# Altium footprint library HMC573LC3B.PcbLib: 3 footprints
Each footprint in its own frame and in the unit in brackets; x right, y up, seen from the top. Pads: shape width x height; smd on the part's side, far side on the other; paste and mask are expansions set on the pad; w line width, h text height; cw(c..) or ccw(c..) is an arc to the next point about the centre after c.
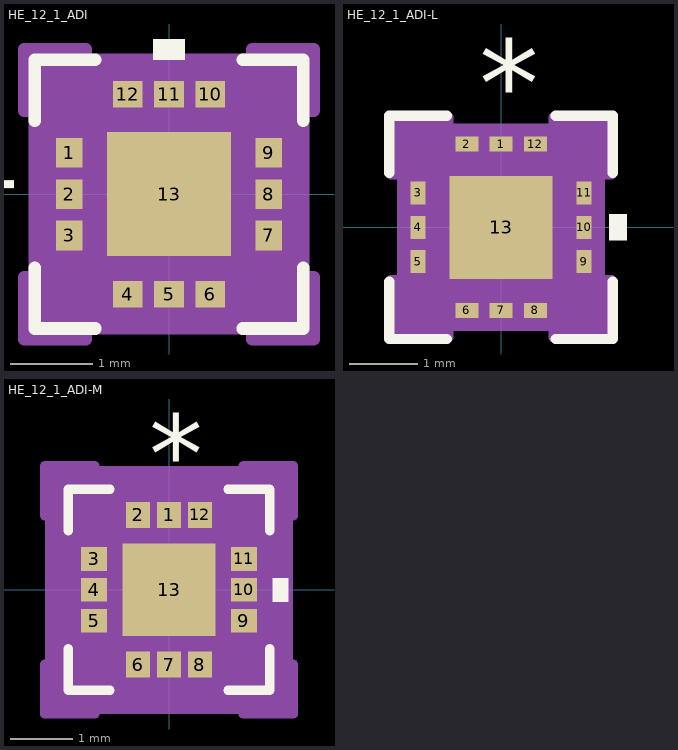
[diagram p0: the footprints below, top view; thin cyan lines are the x and y axes]

## HE_12_1_ADI [mm]
pads (13):
  rect 0.32x0.36 smd paste+0 mask+0: 1(-1.21,0.5) 2(-1.21,0) 3(-1.21,-0.5) 7(1.21,-0.5) 8(1.21,0) 9(1.21,0.5)
  rect 0.36x0.32 smd paste+0 mask+0: 4(-0.5,-1.21) 5(0,-1.21) 6(0.5,-1.21) 10(0.5,1.21) 11(0,1.21) 12(-0.5,1.21)
  rect 1.5x1.5 smd paste+0 mask+0: 13(0,0)
Top Overlay:
  region: -0.191,1.624 -0.191,1.878 0.191,1.878 0.191,1.624
  lines w0.152: -1.627,-0.891 -1.627,-1.627 -0.891,-1.627 ; -1.627,0.891 -1.627,1.627 -0.891,1.627 ; 0.891,-1.627 1.627,-1.627 1.627,-0.891 ; 0.891,1.627 1.627,1.627 1.627,0.891
  text "*" at -1.37,-0.318 h1.27
  text ".Designator" at 0.635,-3.492 h1.27
Mechanical 13:
  lines w0.025: -1.5,-0.23 -0.23,-1.5 ; -1.5,-1.5 -1.5,1.5 1.5,1.5 1.5,-1.5 -1.5,-1.5 ; -1.5,-0.68 -1.5,-0.32 -1.37,-0.32 -1.37,-0.68 -1.5,-0.68 ; -1.5,-0.18 -1.5,0.18 -1.37,0.18 -1.37,-0.18 -1.5,-0.18 ; -1.5,0.32 -1.5,0.68 -1.37,0.68 -1.37,0.32 -1.5,0.32 ; -0.68,-1.5 -0.32,-1.5 -0.32,-1.37 -0.68,-1.37 -0.68,-1.5 ; -0.68,1.37 -0.32,1.37 -0.32,1.5 -0.68,1.5 -0.68,1.37 ; -0.18,-1.5 0.18,-1.5 0.18,-1.37 -0.18,-1.37 -0.18,-1.5 ; -0.18,1.37 0.18,1.37 0.18,1.5 -0.18,1.5 -0.18,1.37 ; 0.32,-1.5 0.68,-1.5 0.68,-1.37 0.32,-1.37 0.32,-1.5 ; 0.32,1.37 0.68,1.37 0.68,1.5 0.32,1.5 0.32,1.37 ; 1.37,-0.68 1.5,-0.68 1.5,-0.32 1.37,-0.32 1.37,-0.68 ; 1.37,-0.18 1.5,-0.18 1.5,0.18 1.37,0.18 1.37,-0.18 ; 1.37,0.32 1.5,0.32 1.5,0.68 1.37,0.68 1.37,0.32
  text ".Designator" at 0.635,-3.492 h1.27
  text "*" at 0.154,-0.318 h1.27
Mechanical 15:
  region: 1.754,-1.008 1.754,-1.754 1.008,-1.754 1.008,-1.624 -1.008,-1.624 -1.008,-1.754 -1.754,-1.754 -1.754,-1.008 -1.624,-1.008 -1.624,1.008 -1.754,1.008 -1.754,1.754 -1.008,1.754 -1.008,1.624 1.008,1.624 1.008,1.754 1.754,1.754 1.754,1.008 1.624,1.008 1.624,-1.008
  lines w0.152: -1.754,-1.754 -1.008,-1.754 -1.008,-1.624 1.008,-1.624 1.008,-1.754 1.754,-1.754 1.754,-1.008 1.624,-1.008 1.624,1.008 1.754,1.008 1.754,1.754 1.008,1.754 1.008,1.624 -1.008,1.624 -1.008,1.754 -1.754,1.754 -1.754,1.008 -1.624,1.008 -1.624,-1.008 -1.754,-1.008 -1.754,-1.754
3D body "HE_12_1_ADI.step": height 0.92, standoff 0, extent -1.551,-1.551 1.551,1.551

## HE_12_1_ADI-L [mm]
pads (13):
  rect 0.335x0.218 smd paste+0 mask+0: 1(0,1.21) 2(-0.5,1.21) 6(-0.5,-1.21) 7(0,-1.21) 8(0.5,-1.21) 12(0.5,1.21)
  rect 0.218x0.335 smd paste+0 mask+0: 3(-1.21,0.5) 4(-1.21,0) 5(-1.21,-0.5) 9(1.21,-0.5) 10(1.21,0) 11(1.21,0.5)
  rect 1.5x1.5 smd paste+0 mask+0: 13(0,0)
Top Overlay:
  region: 1.573,0.191 1.827,0.191 1.827,-0.191 1.573,-0.191
  lines w0.152: -1.627,-0.794 -1.627,-1.627 -0.794,-1.627 ; -1.627,0.794 -1.627,1.627 -0.794,1.627 ; 0.794,-1.627 1.627,-1.627 1.627,-0.794 ; 0.794,1.627 1.627,1.627 1.627,0.794
  text "*" at -0.318,1.472 h1.27
  text ".Designator" at -3.492,-0.635 h1.27
Mechanical 13:
  lines w0.025: -1.5,0.23 -0.23,1.5 ; -1.5,-1.5 1.5,-1.5 1.5,1.5 -1.5,1.5 -1.5,-1.5 ; -1.5,-0.68 -1.5,-0.32 -1.37,-0.32 -1.37,-0.68 -1.5,-0.68 ; -1.5,-0.18 -1.5,0.18 -1.37,0.18 -1.37,-0.18 -1.5,-0.18 ; -1.5,0.32 -1.5,0.68 -1.37,0.68 -1.37,0.32 -1.5,0.32 ; -0.68,-1.5 -0.32,-1.5 -0.32,-1.37 -0.68,-1.37 -0.68,-1.5 ; -0.68,1.37 -0.32,1.37 -0.32,1.5 -0.68,1.5 -0.68,1.37 ; -0.18,-1.5 0.18,-1.5 0.18,-1.37 -0.18,-1.37 -0.18,-1.5 ; -0.18,1.37 0.18,1.37 0.18,1.5 -0.18,1.5 -0.18,1.37 ; 0.32,-1.5 0.68,-1.5 0.68,-1.37 0.32,-1.37 0.32,-1.5 ; 0.32,1.37 0.68,1.37 0.68,1.5 0.32,1.5 0.32,1.37 ; 1.37,-0.68 1.5,-0.68 1.5,-0.32 1.37,-0.32 1.37,-0.68 ; 1.37,-0.18 1.5,-0.18 1.5,0.18 1.37,0.18 1.37,-0.18 ; 1.37,0.32 1.5,0.32 1.5,0.68 1.37,0.68 1.37,0.32
  text ".Designator" at -3.492,-0.635 h1.27
  text "*" at -0.318,-0.052 h1.27
Mechanical 15:
  region: -0.769,-1.602 -1.602,-1.602 -1.602,-0.769 -1.421,-0.769 -1.421,0.769 -1.602,0.769 -1.602,1.602 -0.769,1.602 -0.769,1.421 0.769,1.421 0.769,1.602 1.602,1.602 1.602,0.769 1.421,0.769 1.421,-0.769 1.602,-0.769 1.602,-1.602 0.769,-1.602 0.769,-1.421 -0.769,-1.421
  lines w0.152: -1.602,-1.602 -1.602,-0.769 -1.421,-0.769 -1.421,0.769 -1.602,0.769 -1.602,1.602 -0.769,1.602 -0.769,1.421 0.769,1.421 0.769,1.602 1.602,1.602 1.602,0.769 1.421,0.769 1.421,-0.769 1.602,-0.769 1.602,-1.602 0.769,-1.602 0.769,-1.421 -0.769,-1.421 -0.769,-1.602 -1.602,-1.602
3D body "HE_12_1_ADI.step": height 0.92, standoff 0, extent -1.551,-1.551 1.551,1.551

## HE_12_1_ADI-M [mm]
pads (13):
  rect 0.385x0.422 smd paste+0 mask+0: 1(0,1.21) 2(-0.5,1.21) 6(-0.5,-1.21) 7(0,-1.21) 8(0.5,-1.21) 12(0.5,1.21)
  rect 0.422x0.385 smd paste+0 mask+0: 3(-1.21,0.5) 4(-1.21,0) 5(-1.21,-0.5) 9(1.21,-0.5) 10(1.21,0) 11(1.21,0.5)
  rect 1.5x1.5 smd paste+0 mask+0: 13(0,0)
Top Overlay:
  region: 1.675,0.191 1.929,0.191 1.929,-0.191 1.675,-0.191
  lines w0.152: -1.627,-0.954 -1.627,-1.627 -0.954,-1.627 ; -1.627,0.954 -1.627,1.627 -0.954,1.627 ; 0.954,-1.627 1.627,-1.627 1.627,-0.954 ; 0.954,1.627 1.627,1.627 1.627,0.954
  text "*" at -0.318,1.573 h1.27
  text ".Designator" at -3.492,-0.635 h1.27
Mechanical 13:
  lines w0.025: -1.5,0.23 -0.23,1.5 ; -1.5,-1.5 1.5,-1.5 1.5,1.5 -1.5,1.5 -1.5,-1.5 ; -1.5,-0.68 -1.5,-0.32 -1.37,-0.32 -1.37,-0.68 -1.5,-0.68 ; -1.5,-0.18 -1.5,0.18 -1.37,0.18 -1.37,-0.18 -1.5,-0.18 ; -1.5,0.32 -1.5,0.68 -1.37,0.68 -1.37,0.32 -1.5,0.32 ; -0.68,-1.5 -0.32,-1.5 -0.32,-1.37 -0.68,-1.37 -0.68,-1.5 ; -0.68,1.37 -0.32,1.37 -0.32,1.5 -0.68,1.5 -0.68,1.37 ; -0.18,-1.5 0.18,-1.5 0.18,-1.37 -0.18,-1.37 -0.18,-1.5 ; -0.18,1.37 0.18,1.37 0.18,1.5 -0.18,1.5 -0.18,1.37 ; 0.32,-1.5 0.68,-1.5 0.68,-1.37 0.32,-1.37 0.32,-1.5 ; 0.32,1.37 0.68,1.37 0.68,1.5 0.32,1.5 0.32,1.37 ; 1.37,-0.68 1.5,-0.68 1.5,-0.32 1.37,-0.32 1.37,-0.68 ; 1.37,-0.18 1.5,-0.18 1.5,0.18 1.37,0.18 1.37,-0.18 ; 1.37,0.32 1.5,0.32 1.5,0.68 1.37,0.68 1.37,0.32
  text ".Designator" at -3.492,-0.635 h1.27
  text "*" at -0.318,0.049 h1.27
Mechanical 15:
  region: -1.201,-2.008 -2.008,-2.008 -2.008,-1.201 -1.929,-1.201 -1.929,1.201 -2.008,1.201 -2.008,2.008 -1.201,2.008 -1.201,1.929 1.201,1.929 1.201,2.008 2.008,2.008 2.008,1.201 1.929,1.201 1.929,-1.201 2.008,-1.201 2.008,-2.008 1.201,-2.008 1.201,-1.929 -1.201,-1.929
  lines w0.152: -2.008,-2.008 -2.008,-1.201 -1.929,-1.201 -1.929,1.201 -2.008,1.201 -2.008,2.008 -1.201,2.008 -1.201,1.929 1.201,1.929 1.201,2.008 2.008,2.008 2.008,1.201 1.929,1.201 1.929,-1.201 2.008,-1.201 2.008,-2.008 1.201,-2.008 1.201,-1.929 -1.201,-1.929 -1.201,-2.008 -2.008,-2.008
3D body "HE_12_1_ADI.step": height 0.92, standoff 0, extent -1.551,-1.551 1.551,1.551